# Altium footprint library Capacitor.PcbLib: 1 footprints
Each footprint in its own frame and in the unit in brackets; x right, y up, seen from the top. Pads: shape width x height; smd on the part's side, far side on the other; paste and mask are expansions set on the pad; w line width, h text height; cw(c..) or ccw(c..) is an arc to the next point about the centre after c.
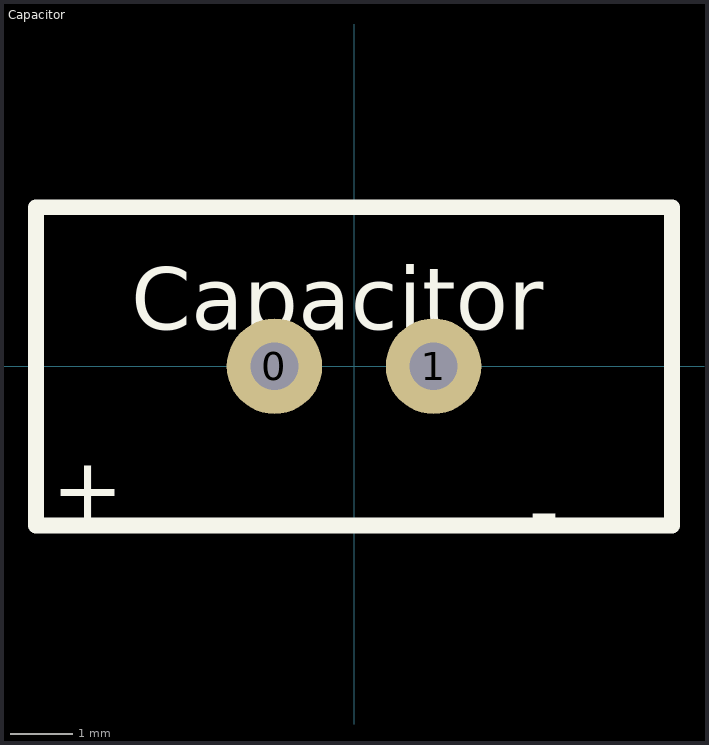
[diagram p0: the footprint, top view; thin cyan lines are the x and y axes]

## Capacitor [mil]
pads (2):
  round 60 hole 30: 0(-50,0) 1(50,0)
Top Overlay:
  lines w10: -200,-100 200,-100 200,100 -200,100 -200,-100
  text "-" at 110,-109.68 h39.37
  text "+" at -190,-96.56 h39.37
  text "Capacitor" at -140,23.12 h39.37